# EAGLE library part MICROHARD_N2420 (library custom-devices)
245046060600829+ connector to match Microhard Nano n2420 OEM radio module.
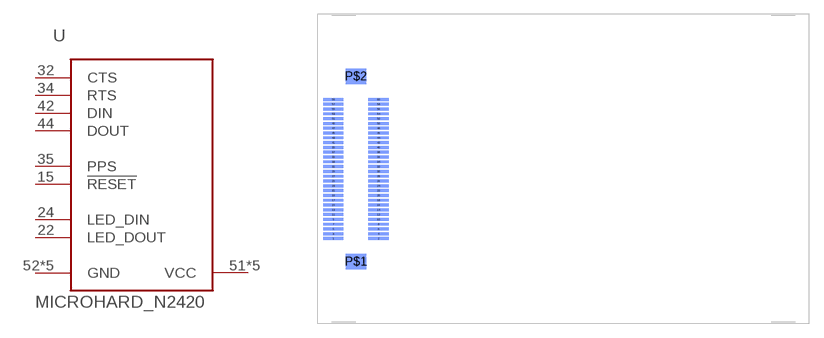
[diagram p45: symbol with the pads of MICROHARD_N2420; footprint MICROHARD_N2420]

Designator prefix U

## MICROHARD_N2420 (DIGI-KEY: 478-5537-1-ND)  [MICROHARD_N2420]
15  !RESET!
22  LED_DOUT
24  LED_DIN
32  CTS
34  RTS
35  PPS
42  DIN
44  DOUT
51  VCC
52  GND
53  VCC
54  GND
55  VCC
56  GND
57  VCC
58  GND
59  VCC
60  GND

## Footprint MICROHARD_N2420 (pad centres in mm)
smd 2.1 x 0.3 bottom: 1 -2.351,-7.254; 2 2.349,-7.254; 3 -2.351,-6.754; 4 2.349,-6.754; 5 -2.351,-6.254; 6 2.349,-6.254; 7 -2.351,-5.754; 8 2.349,-5.754; 9 -2.351,-5.254; 10 2.349,-5.254; 11 -2.351,-4.754; 12 2.349,-4.754; 13 -2.351,-4.254; 14 2.349,-4.254; 15 -2.351,-3.754; 16 2.349,-3.754; 17 -2.351,-3.254; 18 2.349,-3.254; 19 -2.351,-2.754; 20 2.349,-2.754; 21 -2.351,-2.254; 22 2.349,-2.254; 23 -2.351,-1.754; 24 2.349,-1.754; 25 -2.351,-1.254; 26 2.349,-1.254; 27 -2.351,-0.754; 28 2.349,-0.754; 29 -2.351,-0.254; 30 2.349,-0.254; 31 -2.351,0.246; 32 2.349,0.246; 33 -2.351,0.746; 34 2.349,0.746; 35 -2.351,1.246; 36 2.349,1.246; 37 -2.351,1.746; 38 2.349,1.746; 39 -2.351,2.246; 40 2.349,2.246; 41 -2.351,2.746; 42 2.349,2.746; 43 -2.351,3.246; 44 2.349,3.246; 45 -2.351,3.746; 46 2.349,3.746; 47 -2.351,4.246; 48 2.349,4.246; 49 -2.351,4.746; 50 2.349,4.746; 51 -2.351,5.246; 52 2.349,5.246; 53 -2.351,5.746; 54 2.349,5.746; 55 -2.351,6.246; 56 2.349,6.246; 57 -2.351,6.746; 58 2.349,6.746; 59 -2.351,7.246; 60 2.349,7.246
smd 2.1 x 1.6 bottom: P$1 -0.001,-9.654; P$2 -0.001,9.646